# EAGLE library part MP2639A (library Artemis)
Check prices <https://pricing.snapeda.com/parts/MP2639A/Monolithic%20Power%20Systems/view-part?ref=eda>
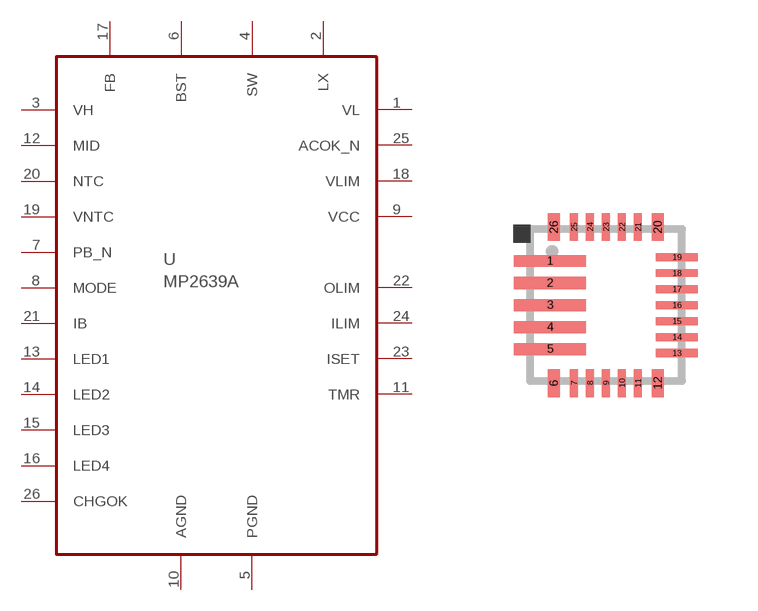
[diagram p1: symbol with the pads of QFN26-4X4_MP2639A; footprint QFN26-4X4_MP2639A]

Designator prefix -

## MP2639A (AVAILABILITY: No availability data; DESCRIPTION: Charger IC Lithium Ion/Polymer 26-QFN (4x4); MF: Monolithic Power Systems; MP: MP2639A; PACKAGE: QFN-26 Monolithic Power Systems; PRICE: None)  [QFN26-4X4_MP2639A]
1  VL  pwr
2  LX  pwr
3  VH  pwr
4  SW  pwr
5  PGND  pwr
6  BST  pwr
7  PB_N  in
8  MODE  in
9  VCC  pwr
10  AGND  pwr
11  TMR  in
12  MID  in
13  LED1  out
14  LED2  out
15  LED3  out
16  LED4  out
17  FB  in
18  VLIM  in
19  VNTC  out
20  NTC  in
21  IB  out
22  OLIM  in
23  ISET  in
24  ILIM  in
25  ACOK_N  out
26  CHGOK  out

## Footprint QFN26-4X4_MP2639A (pad centres in mm)
UF Package 26-Lead (4mm × 4mm) Plastic QFN - MP2639 Source: http://
smd 1.8 x 0.3: 1 -1.4,1.1; 2 -1.4,0.55; 3 -1.4,0; 4 -1.4,-0.55; 5 -1.4,-1.1
smd 0.3 x 0.7: 6 -1.3,-1.95; 12 1.3,-1.95; 20 1.3,1.95; 26 -1.3,1.95
smd 0.2 x 0.7: 7 -0.8,-1.95; 8 -0.4,-1.95; 9 0,-1.95; 10 0.4,-1.95; 11 0.8,-1.95; 21 0.8,1.95; 22 0.4,1.95; 23 0,1.95; 24 -0.4,1.95; 25 -0.8,1.95
smd 1.05 x 0.2: 13 1.775,-1.2; 14 1.775,-0.8; 15 1.775,-0.4; 16 1.775,0; 17 1.775,0.4; 18 1.775,0.8; 19 1.775,1.2